# Altium integrated library Drivers.IntLib: 13 symbols
Pins are listed as number, name and electrical type; pins without a type are passive.

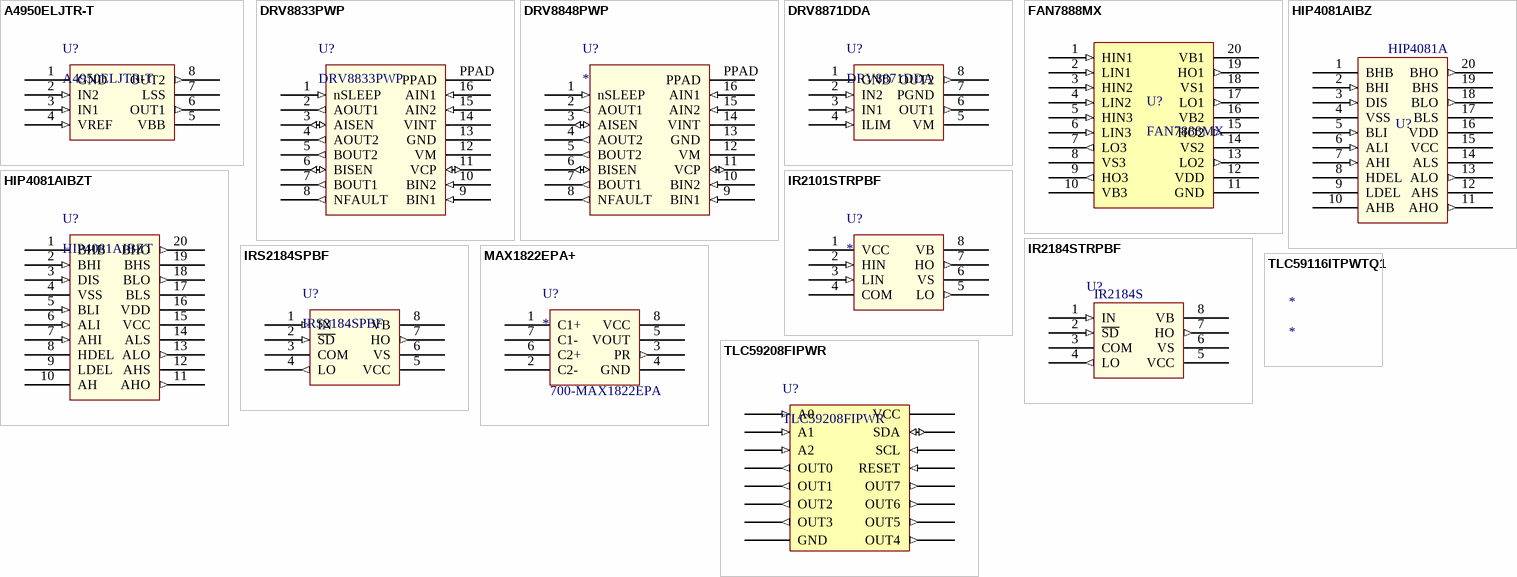
[diagram p0: symbols A4950ELJTR-T to TLC59208FIPWR]

## A4950ELJTR-T
designator U?
IC MOTOR DRIVER PAR 8SOIC; Manufacturer: Allegro MicroSystems, LLC; Motor Type - AC, DC: Brushed DC; Function: Driver - Fully Integrated, Control and Power Stage; Output Configuration: Half Bridge (2); Interface: Analog; Current - Output: 3.5A; Voltage - Supply: 8 V ~ 40 V; Supplier 1: Digi-Key; Manufacturer Part Number: A4950ELJTR-T; RoHS: RoHS Compliant; Category: Integrated Circuits (ICs); Stock 1: 1384; Pricing 1: 1=2.92, 10=2.623, 100=2.1491, 500=1.82948, 1000=1.54294 (USD); Packaging: Cut Tape (CT); Motor Type - Stepper: -; Technology: DMOS; Step Resolution: -; Applications: General Purpose; Voltage - Load: 8 V ~ 40 V; Operating Temperature: -40°C ~ 150°C (TJ); Mounting Type: Surface Mount; Package / Case: 8-SOIC (0.154", 3.90mm Width) Exposed Pad; Supplier Device Package: 8-SOIC-EP; ComponentLink1URL: http://www.allegromicro.com/en/Products/Part_Numbers/4950/4950.pdf; ComponentLink1Description: http://www.allegromicro.com/en/Products/Part_Numbers/4950/4950.pdf
footprint SOIC8 Thermal (with thermalpad)
pins: 1 GND (power), 2 IN2 (in), 3 IN1 (in), 4 VREF (in), 5 VBB (power), 6 OUT1 (out), 7 LSS (power), 8 OUT2 (out)

## DRV8833PWP
designator U?
IC MOTOR DRIVER PAR 16HTSSOP; Manufacturer: Texas Instruments; Output Configuration: Half Bridge (4); Interface: PWM; Load Type: Inductive; Rds On (Typ): 160 mOhm LS, 200 mOhm HS; Current - Output / Channel: 1.5A; Current - Peak Output: 2A; Voltage - Supply: 2.7 V ~ 10.8 V; Fault Protection: Current Limiting, Over Temperature, Short Circuit, UVLO; Supplier 1: Digi-Key; Manufacturer Part Number: DRV8833PWP; RoHS: RoHS Compliant; Category: Integrated Circuits (ICs); Stock 1: 188; Pricing 1: 1=2.87, 10=2.576, 100=2.0704, 500=1.701, 1000=1.215 (USD); Packaging: Tube; Applications: DC Motors, General Purpose, Solenoids, Stepper Motors; Technology: NMOS; Voltage - Load: 2.7 V ~ 10.8 V; Operating Temperature: -40°C ~ 150°C (TJ); Features: Status Flag; Mounting Type: Surface Mount; Package / Case: 16-TSSOP (0.173", 4.40mm Width) Exposed Pad; Supplier Device Package: 16-HTSSOP; ComponentLink1URL: http://www.ti.com/lit/ds/symlink/drv8833.pdf; ComponentLink1Description: http://www.ti.com/lit/ds/symlink/drv8833.pdf
footprint DRV8833PWP_3D (Texas Instruments DRV8833 Motor Driver)
pins: 1 nSLEEP (in), 2 AOUT1 (out), 3 AISEN (io), 4 AOUT2 (out), 5 BOUT2 (out), 6 BISEN (io), 7 BOUT1 (out), 8 NFAULT (out), 9 BIN1 (in), 10 BIN2 (in), 11 VCP (io), 12 VM (power), 13 GND (power), 14 VINT (power), 15 AIN2 (in), 16 AIN1 (in), PPAD (power)

## DRV8848PWP
designator U?
IC MOTOR DRIVER PAR 16HTSSOP; Manufacturer: Texas Instruments; Manufacturer Part Number: DRV8848PWP; Output Configuration: Half Bridge (4); Interface: PWM; Load Type: Inductive; Rds On (Typ): 350 mOhm LS, 550 mOhm HS; Current - Output / Channel: 1A; Voltage - Supply: 4 V ~ 18 V; Fault Protection: Current Limiting, Over Temperature, Short Circuit, UVLO; Supplier 1: Digi-Key; RoHS: RoHS Compliant; Category: Integrated Circuits (ICs); Stock 1: 275; Pricing 1: 1=2.69, 10=2.416, 100=1.9793, 500=1.6849, 1000=1.26875 (USD); Packaging: Tube; Applications: DC Motors, General Purpose; Technology: Power MOSFET; Current - Peak Output: -; Voltage - Load: 4 V ~ 18 V; Operating Temperature: -40°C ~ 150°C (TJ); Features: Status Flag; Mounting Type: Surface Mount; Package / Case: 16-TSSOP (0.173", 4.40mm Width) Exposed Pad; Supplier Device Package: 16-HTSSOP; ComponentLink1URL: http://www.ti.com/lit/ds/symlink/drv8848.pdf; ComponentLink1Description: http://www.ti.com/lit/ds/symlink/drv8848.pdf; Supplier Part Number 1: 296-38514-5-ND
footprint DRV8833PWP_3D (Texas Instruments DRV8833 Motor Driver)
pins: 1 nSLEEP (in), 2 AOUT1 (out), 3 AISEN (io), 4 AOUT2 (out), 5 BOUT2 (out), 6 BISEN (io), 7 BOUT1 (out), 8 NFAULT (out), 9 BIN1 (in), 10 BIN2 (in), 11 VCP (io), 12 VM (power), 13 GND (power), 14 VINT (power), 15 AIN2 (in), 16 AIN1 (in), PPAD (power)

## DRV8871DDA
designator U?
IC BRUSHED DC MOTOR DRIVER 8-SO POWERPAD; Manufacturer: Texas Instruments; Number of Outputs: 1 Output; Operating Frequency: 100 kHz; Output Current: 3.6 A; Operating Supply Current: 3 mA; Operating Supply Voltage: 6.5 V to 45 V; Product Status: New Product; Supplier 1: Mouser; Manufacturer Part Number: DRV8871DDA; RoHS: RoHS Compliant; Category: Motor / Motion / Ignition Controllers & Drivers; Stock 1: 262; Pricing 1: 1=6.70, 10=5.98, 25=5.39, 50=5.15, 100=4.91, 250=4.43, 500=3.97, 750=3.58, 1000=2.99 (AUD); Operating Temperature Range: - 40 C to + 125 C; Package / Case: SO-8; Packaging: Tube; Product: Brushed DC Motor Drivers; Series: DRV8871; Type: DC Motor Driver; Brand: Texas Instruments; Mounting Style: SMD/SMT; RoHS - Mouser: Y; Minimum Order Quantity: 1; Reeling: False; ComponentLink1URL: http://www.mouser.com/ds/2/405/drv8871-775102.pdf; ComponentLink1Description: http://www.mouser.com/ds/2/405/drv8871-775102.pdf
footprint HSOP8 Thermal (with thermalpad)
pins: 1 GND (power), 2 IN2 (in), 3 IN1 (in), 4 ILIM (in), 5 VM (power), 6 OUT1 (out), 7 PGND (power), 8 OUT2 (out), 9 THERMAL PAD hidden to GND

## FAN7888MX
designator U?
IC GATE DRIVER HALF BRIDG 20SOIC; Manufacturer: Fairchild Semiconductor; Driven Configuration: Half-Bridge; Channel Type: 3-Phase; Number of Drivers: 6; Gate Type: IGBT, N-Channel MOSFET; Voltage - Supply: 10 V ~ 20 V; Logic Voltage - VIL, VIH: 1V, 2.5V; Current - Peak Output (Source, Sink): 350mA, 650mA; Input Type: Non-Inverting; High Side Voltage - Max (Bootstrap): 200V; Rise / Fall Time (Typ): 50ns, 30ns; Supplier 1: Digi-Key; Manufacturer Part Number: FAN7888MX; RoHS: RoHS Compliant; Category: Integrated Circuits (ICs); Stock 1: 1913; Pricing 1: 1=2.3, 10=2.065, 100=1.6563, 500=1.36134 (USD); Packaging: Cut Tape (CT); Part Status: Active; Operating Temperature: -40°C ~ 150°C (TJ); Mounting Type: Surface Mount; Package / Case: 20-SOIC (0.295", 7.50mm Width); Supplier Device Package: 20-SOIC; ComponentLink1URL: http://www.fairchildsemi.com/datasheets/FA/FAN7888.pdf; ComponentLink1Description: http://www.fairchildsemi.com/datasheets/FA/FAN7888.pdf
footprint SOIC20 (20-Pin Small Outline Integrated Circuit 1.27 mm Pitch, IPC Low Density)
pins: 1 HIN1 (in), 2 LIN1 (in), 3 HIN2 (in), 4 LIN2 (in), 5 HIN3 (in), 6 LIN3 (in), 7 LO3 (out), 8 VS3 (power), 9 HO3 (out), 10 VB3 (power), 11 GND (power), 12 VDD (power), 13 LO2 (out), 14 VS2 (power), 15 HO2 (out), 16 VB2 (power), 17 LO1 (out), 18 VS1 (power), 19 HO1 (out), 20 VB1 (power)

## HIP4081AIBZ
designator U?  value HIP4081A  (hidden comment: HIP4081AIBZ)
Gate Drivers 80 VDC HI FREQ H-BRDG DRVR W/STAR; Manufacturer: Intersil; Fall Time: 35 ns; Supply Voltage - Max: 15 V; Supply Voltage - Min: 9.5 V; Supplier 1: Mouser; Manufacturer Part Number: HIP4081AIBZ; RoHS: RoHS Compliant; Category: Gate Drivers; Stock 1: 3020; Pricing 1: 1=8.48, 25=6.89, 100=4.81, 500=3.92 (AUD); Package / Case: SOIC-Wide-20; Packaging: Tube; Product: Half-Bridge Drivers; Series: HIP4081A; Type: High Frequency Full Bridge FET Driver; Brand: Intersil; Mounting Style: SMD/SMT; Maximum Operating Temperature: + 85 C; Minimum Operating Temperature: - 40 C; Rise Time: 35 ns; Standard Pack Qty: 38; RoHS - Mouser: Y; Minimum Order Quantity: 1; Reeling: False; ComponentLink1URL: http://www.mouser.com/ds/2/465/hip4081a-553876.pdf; ComponentLink1Description: http://www.mouser.com/ds/2/465/hip4081a-553876.pdf; Supplier Part Number 1: 968-HIP4081AIBZ
footprint SOIC20_Wide (20-Pin Small Outline Integrated Circuit 1.27 mm Pitch, IPC Low Density)
pins: 1 BHB, 2 BHI (in), 3 DIS (in), 4 VSS (power), 5 BLI (in), 6 ALI (in), 7 AHI (in), 8 HDEL, 9 LDEL, 10 AHB, 11 AHO (out), 12 AHS, 13 ALO (out), 14 ALS, 15 VCC (power), 16 VDD (power), 17 BLS, 18 BLO (out), 19 BHS, 20 BHO (out)

## HIP4081AIBZT
designator U?
IC FET DRIVER 20SOIC; Manufacturer: INTERSIL; Driver Configuration: Full Bridge; Peak Output Current: 2.6; Supply Voltage Min: 9.5; Supply Voltage Max: 15; Driver Case Style: SOIC; No. of Pins: 20; Input Delay: 60; Output Delay: 35; SVHC: No SVHC (15-Jun-2015); Base Number: 4081; Device Type: MOSFET; Supply Voltage Range: 9.5V to 15V<!--FANDB--><div class="features-and-benefits-container"><div class="features-and-benefits-description"><span class="features-benefits-value">The HIP4081AIBZT is a 80V/2.5A peak high frequency full bridge N-channel FET Driver IC with charge pump and independent control inputs. The HIP4081A can drive every possible switch combination except those which would cause a shoot-through condition. The HIP4081A can switch at frequencies up to 1MHz and is well suited to driving voice coil motors, high-frequency switching power amplifiers and power supplies. For example, the HIP4081A can drive medium voltage brush motors and two HIP4081As can be used to drive high performance stepper motors, since the short minimum "on-time" can provide fine micro-stepping capability. Short propagation delays of approximately 55ns maximizes control loop crossover frequencies and dead-times which can be adjusted to near zero to minimize distortion, resulting in rapid, precise control of the driven load.</span></div><div class="features-and-benefits-list"><ul class="features-and-benefits-list-list"><li class="features-and-benefits-list-item">Independently drives 4 N-channel FETs in half bridge or full bridge configurations</li><li class="features-and-benefits-list-item">Bootstrap supply maximum voltage to 95VDC</li><li class="features-and-benefits-list-item">Drives 1000pF load at 1MHz in free air at 50°C with rise and fall times of typically 10ns</li><li class="features-and-benefits-list-item">User-programmable dead time</li><li class="features-and-benefits-list-item">On-chip charge-pump and bootstrap upper bias supplies</li><li class="features-and-benefits-list-item">DIS (Disable) overrides input control</li><li class="features-and-benefits-list-item">Input logic thresholds compatible with 5 to 15; Supplier 1: Farnell; Manufacturer Part Number: HIP4081AIBZT; RoHS: YES; Stock 1: 664; Pricing 1: 1=5,53, 10=3,84, 100=2,95, 250=1,72, 500=1,69, 2000=1,68, 3000=1,67 (GBP); Operating Temperature Min: -40; Operating Temperature Max: 85; Packaging: Each; MSL: MSL 3 - 168 hours; Module Configuration: Full Bridge; Operating Temperature Range: -40°C to +85; ComponentLink1URL: http://www.farnell.com/datasheets/32553.pdf; ComponentLink1Description: http://www.farnell.com/datasheets/32553.pdf; ComponentLink2URL: http://www.farnell.com/datasheets/1936152.pdf; ComponentLink2Description: http://www.farnell.com/datasheets/1936152.pdf
footprint HIP4081AIBZT (20-Pin Small Outline Integrated Circuit 1.27 mm Pitch, IPC Low Density)
pins: 1 BHB (power), 2 BHI (in), 3 DIS (in), 4 VSS (power), 5 BLI (in), 6 ALI (in), 7 AHI (in), 8 HDEL, 9 LDEL, 10 AH (power), 11 AHO (out), 12 AHS (power), 13 ALO (out), 14 ALS (power), 15 VCC (power), 16 VDD (power), 17 BLS (power), 18 BLO (out), 19 BHS (power), 20 BHO (out)

## IR2101STRPBF
designator U?
IC DRIVER HALF BRIDGE 8-SOIC; Manufacturer: INFINEON; Manufacturer Part Number: IR2101STRPBF; Driver Configuration: High Side and Low Side; Peak Output Current: 360; Supply Voltage Min: 10; Supply Voltage Max: 20; Driver Case Style: SOIC; No. of Pins: 8; Input Delay: 160; Supplier 1: Farnell; RoHS: YES; Stock 1: 2500; Pricing 1: 2500=2,298, 5000=2,152, 7500=2,036 (GBP); ComponentLink1URL: http://www.farnell.com/datasheets/59953.pdf; ComponentLink1Description: http://www.farnell.com/datasheets/59953.pdf; Supplier Part Number 1: IR2101S
footprint SO-8 (8-Pin Plastic Narrow Body Small Outline Integrated Circuit 1.27 mm Pitch, IPC Medium Density)
pins: 1 VCC (power), 2 HIN (in), 3 LIN (in), 4 COM (power), 5 LO (out), 6 VS (power), 7 HO (out), 8 VB (power)

## IR2184STRPBF
designator U?  value IR2184S  (hidden comment: IR2184STRPBF)
Gate Drivers HALF BRDG DRVR 600V 10 to 20V 1.4A; Manufacturer: International Rectifier; Configuration: Inverting, Non-Inverting; Number of Outputs: 2; Output Current: 1.9 A; Output Voltage: 10 V to 20 V; Supply Current: 1 mA; Fall Time: 20 ns; Maximum Power Dissipation: 625 mW; Maximum Turn-Off Delay Time: 270 ns; Maximum Turn-On Delay Time: 680 ns; Number of Drivers: 2 Driver; Rise Time: 40 ns; Supply Voltage - Min: 10 V; Supplier 1: Mouser; Manufacturer Part Number: IR2184STRPBF; RoHS: RoHS Compliant; Category: Gate Drivers; Stock 1: 1488; Pricing 1: 1=4.22, 10=2.24, 100=1.98, 500=1.86, 1000=1.78, 2500=1.71, 5000=1.62, 10000=1.57 (AUD); Package / Case: SOIC-8; Packaging: Reel; Product: Half-Bridge Drivers; Type: High Side/Low Side; Brand: International Rectifier; Mounting Style: SMD/SMT; Maximum Operating Temperature: + 125 C; Minimum Operating Temperature: - 40 C; Standard Pack Qty: 2500; Supply Voltage - Max: 20 V; RoHS - Mouser: Y; Minimum Order Quantity: 1; Reeling: True; ComponentLink1URL: http://www.mouser.com/ds/2/200/ir2184-54079.pdf; ComponentLink1Description: http://www.mouser.com/ds/2/200/ir2184-54079.pdf; Supplier Part Number 1: 942-IR2184STRPBF
footprint SOIC8 (8-Pin Plastic Narrow Body Small Outline Integrated Circuit 1.27 mm Pitch, IPC Medium Density)
pins: 1 IN (in), 2 ~{SD} (in), 3 COM (power), 4 LO (out), 5 VCC (power), 6 VS, 7 HO (out), 8 VB

## IRS2184SPBF
designator U?
IC DRIVER HALF BRIDGE 8-SOIC; Manufacturer: Infineon Technologies Americas Corp.; Driven Configuration: Half-Bridge; Channel Type: Synchronous; Number of Drivers: 2; Gate Type: IGBT, N-Channel MOSFET; Voltage - Supply: 10 V ~ 20 V; Logic Voltage - VIL, VIH: 0.8V, 2.5V; Current - Peak Output (Source, Sink): 1.9A, 2.3A; Input Type: Non-Inverting; High Side Voltage - Max (Bootstrap): 600V; Rise / Fall Time (Typ): 40ns, 20ns; Supplier 1: Digi-Key; Manufacturer Part Number: IRS2184SPBF; RoHS: RoHS Compliant; Category: Integrated Circuits (ICs); Stock 1: 1073; Pricing 1: 1=1.62, 10=1.446, 100=1.127, 500=0.931, 1000=0.735 (USD); Packaging: Tube; Operating Temperature: -40°C ~ 150°C (TJ); Mounting Type: Surface Mount; Package / Case: 8-SOIC (0.154", 3.90mm Width); Supplier Device Package: 8-SOIC; ComponentLink1URL: http://www.irf.com/product-info/datasheets/data/irs2184.pdf; ComponentLink1Description: http://www.irf.com/product-info/datasheets/data/irs2184.pdf
footprint SO-8 (8-Pin Plastic Narrow Body Small Outline Integrated Circuit 1.27 mm Pitch, IPC Medium Density)
pins: 1 IN (in), 2 ~{SD} (in), 3 COM (power), 4 LO (out), 5 VCC (power), 6 VS (power), 7 HO (out), 8 VB (power)

## MAX1822EPA+
designator U?  Supplier Part Number 1: 700-MAX1822EPA
Voltage Regulators - Switching Regulators High-Side Power Supply; Manufacturer: Maxim Integrated; Manufacturer Part Number: MAX1822EPA+; Input Voltage MAX: 16.5 V; Number of Outputs: 1 Output; Output Current: 25 mA; Output Voltage: 11 V; Switching Frequency: 90 kHz; Input Voltage MIN: 3.5 V; Supplier 1: Mouser; RoHS: RoHS Compliant; Category: Voltage Regulators - Switching Regulators; Stock 1: 64; Pricing 1: 1=5.49, 10=5.21, 25=3.66, 50=3.47, 100=2.64, 250=2.51, 2000=2.20 (USD); Package / Case: SO-8; Packaging: Tube; Series: MAX1822; Type: Voltage Converter; Brand: Maxim Integrated; Mounting Style: SMD/SMT; Maximum Operating Temperature: + 85 C; Minimum Operating Temperature: - 40 C; Standard Pack Qty: 50; RoHS - Mouser: Y; Minimum Order Quantity: 1; Reeling: False; ComponentLink1URL: http://www.mouser.com/ds/2/256/MAX1822-102668.pdf; ComponentLink1Description: http://www.mouser.com/ds/2/256/MAX1822-102668.pdf
footprint SO-8 (8-Pin Plastic Narrow Body Small Outline Integrated Circuit 1.27 mm Pitch, IPC Medium Density)
pins: 1 C1+, 2 C2-, 3 PR (out), 4 GND (power), 5 VOUT (power), 6 C2+, 7 C1-, 8 VCC (power)

## TLC59116ITPWTQ1
designator *
TEXAS INSTRUMENTS - TLC59116ITPWTQ1 - 16-CHANNEL LED DRIVER; Supplier 1: Newark; Manufacturer: TEXAS INSTRUMENTS; Manufacturer Part Number: TLC59116ITPWTQ1; Stock 1: 0; Pricing 1: 250=2,36, 500=2,19, 1000=2,06 (USD)

## TLC59208FIPWR
designator U?
IC LED DRIVER LINEAR DIM 50MA 16TSSOP; Manufacturer: Texas Instruments; Internal Switch(s): Yes; Number of Outputs: 8; Voltage - Supply (Min): 3V; Voltage - Supply (Max): 5.5V; Voltage - Output: 17V; Dimming: PWM; Supplier 1: Digi-Key; Manufacturer Part Number: TLC59208FIPWR; RoHS: RoHS Compliant; Category: Integrated Circuits (ICs); Stock 1: 0; Pricing 1: 2000=0.73125 (USD); Packaging: Tape & Reel (TR); Part Status: Active; Type: Linear; Topology: -; Current - Output / Channel: 50mA; Frequency: -; Applications: -; Operating Temperature: -40°C ~ 85°C (TA); Mounting Type: Surface Mount; Package / Case: 16-TSSOP (0.173", 4.40mm Width); Supplier Device Package: 16-TSSOP; ComponentLink1URL: http://www.ti.com/lit/ds/symlink/tlc59208f.pdf; ComponentLink1Description: http://www.ti.com/lit/ds/symlink/tlc59208f.pdf; Supplier Part Number 1: 296-36508-2-ND
footprint TLC59208FIPWR
pins: 1 A0 (in), 2 A1 (in), 3 A2 (in), 4 OUT0 (out), 5 OUT1 (out), 6 OUT2 (out), 7 OUT3 (out), 8 GND (power), 9 OUT4 (out), 10 OUT5 (out), 11 OUT6 (out), 12 OUT7 (out), 13 RESET (in), 14 SCL (in), 15 SDA (io), 16 VCC (power)